# Altium footprint library Mini51Lib.PcbLib: 14 footprints
Each footprint in its own frame and in the unit in brackets; x right, y up, seen from the top. Pads: shape width x height; smd on the part's side, far side on the other; paste and mask are expansions set on the pad; w line width, h text height; cw(c..) or ccw(c..) is an arc to the next point about the centre after c.
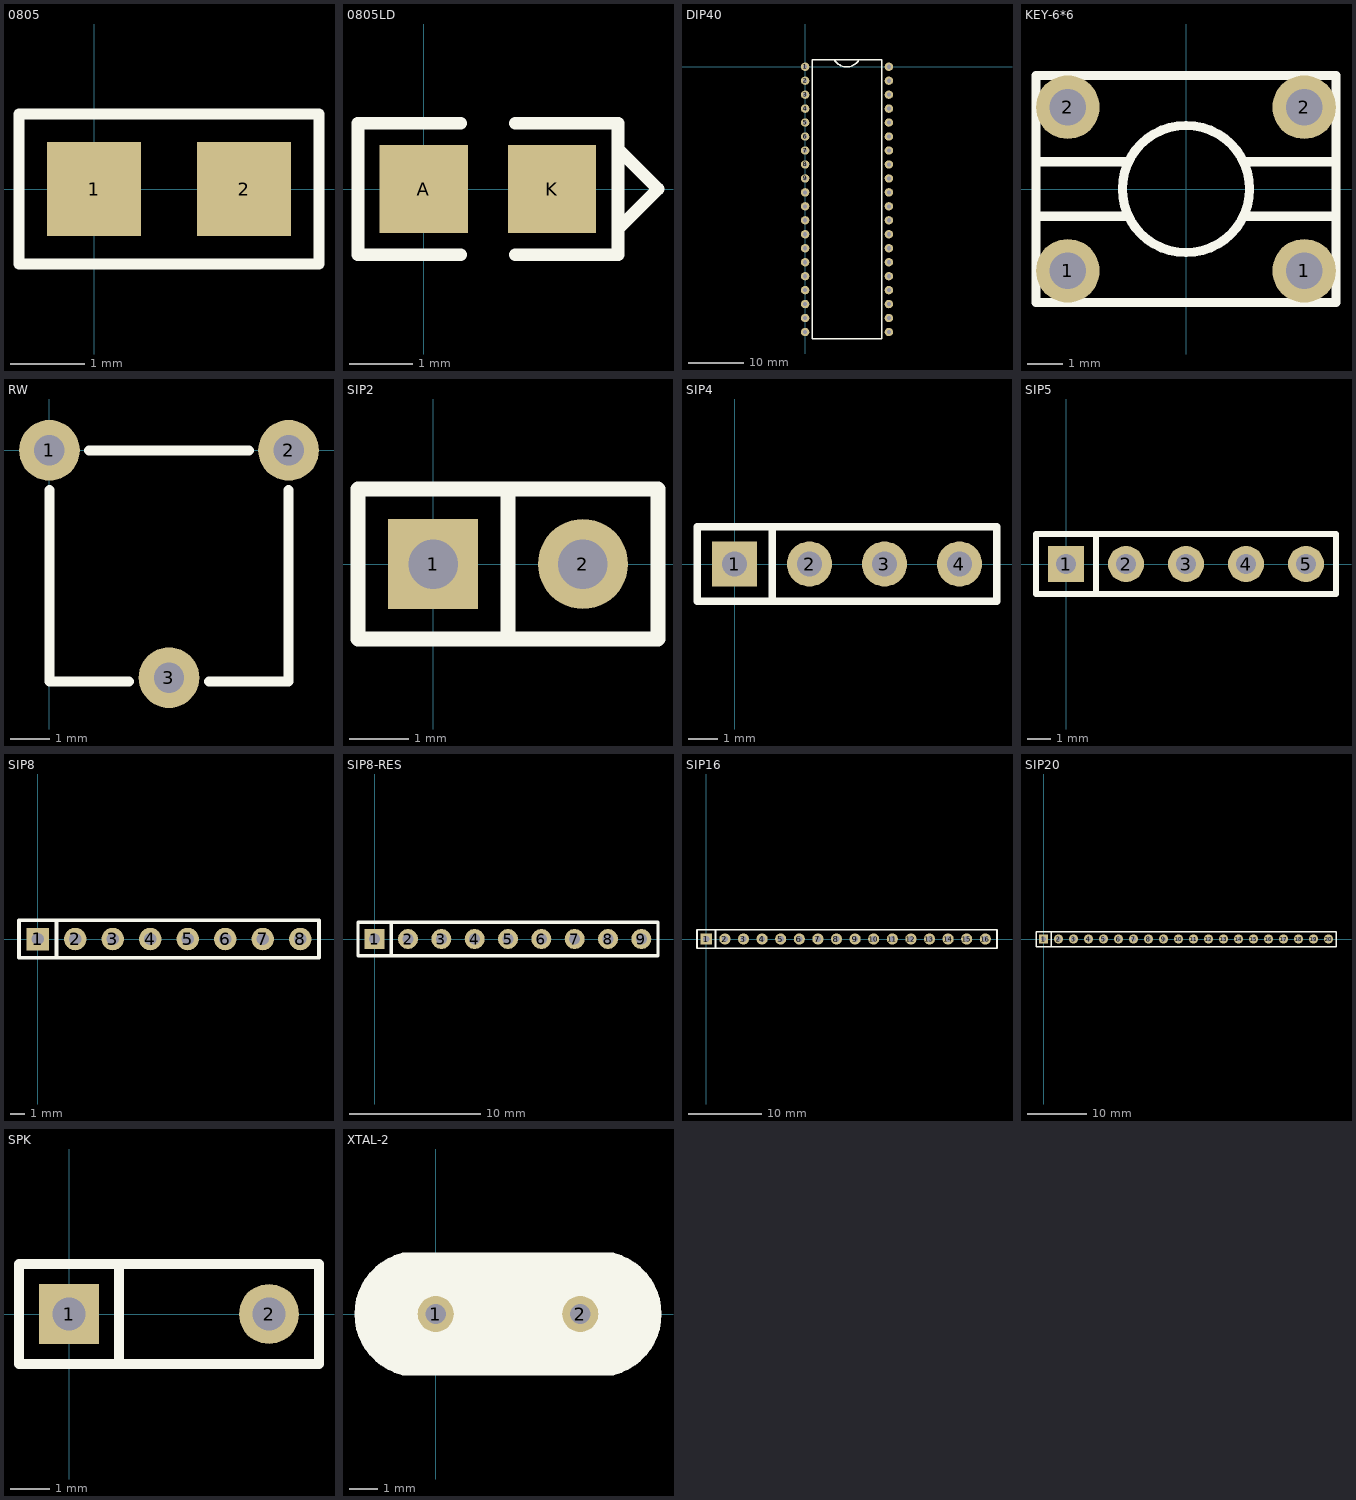
[diagram p0: the footprints below, top view; thin cyan lines are the x and y axes]

## 0805 [mil]
pads (2):
  rect 50x50 smd: 1(0,0) 2(80,0)
Top Overlay:
  lines w6: -40,-40 120,-40 120,40 -40,40 -40,-40

## 0805LD [mil] "SMD LED, Imperial-0805, Metric-2012"
pads (2):
  rect 55x55 smd: A(0,0) K(80,0)
Top Overlay:
  lines w8: 23,-41 -41,-41 -41,41 23,41 ; 57,-41 121,-41 121,41 57,41 ; 121,-25 146,0 121,25

## DIP40 [mil]
pads (40):
  round 60 hole 30: 1(0,0) 2(0,-100) 3(0,-200) 4(0,-300) 5(0,-400) 6(0,-500) 7(0,-600) 8(0,-700) 9(0,-800) 10(0,-900) 11(0,-1000) 12(0,-1100) 13(0,-1200) 14(0,-1300) 15(0,-1400) 16(0,-1500) 17(0,-1600) 18(0,-1700) 19(0,-1800) 20(0,-1900) 21(600,-1900) 22(600,-1800) 23(600,-1700) 24(600,-1600) 25(600,-1500) 26(600,-1400) 27(600,-1300) 28(600,-1200) 29(600,-1100) 30(600,-1000) 31(600,-900) 32(600,-800) 33(600,-700) 34(600,-600) 35(600,-500) 36(600,-400) 37(600,-300) 38(600,-200) 39(600,-100) 40(600,0)
Top Overlay:
  lines w10: 210,50 ccw(c297.42,98.56) 384.83,50 ; 50,-1950 550,-1950 550,50 50,50 50,-1950

## KEY-6*6 [mil]
pads (4):
  round 70 hole 40: 1(-130,-90) 1(130,-90) 2(-130,90) 2(130,90)
Top Overlay:
  circle w10: c0,0 r70
  lines w10: -165,-30 -65,-30 ; -165,30 -65,30 ; 65,-30 165,-30 ; 65,30 165,30 ; -165,-125 165,-125 165,125 -165,125 -165,-125

## RW [mil]
pads (3):
  round 60 hole 30: 1(0,0) 2(236.22,0) 3(118.11,-224.41)
Top Overlay:
  lines w10: 0,-39.37 0,-228.35 78.74,-228.35 ; 39.37,0 196.85,0 ; 157.48,-228.35 236.22,-228.35 236.22,-39.37

## SIP2 [mil]
pads (2):
  rect 60x60 hole 33: 1(0,0)
  round 60 hole 33: 2(100,0)
Top Overlay:
  lines w10: 50,-50 50,50 ; -50,-50 150,-50 150,50 -50,50 -50,-50

## SIP4 [mil]
pads (4):
  rect 60x60 hole 33: 1(0,0)
  round 60 hole 33: 2(100,0) 3(200,0) 4(300,0)
Top Overlay:
  lines w10: 50,-50 50,50 ; -50,-50 350,-50 350,50 -50,50 -50,-50

## SIP5 [mil]
pads (5):
  rect 60x60 hole 33: 1(0,0)
  round 60 hole 33: 2(100,0) 3(200,0) 4(300,0) 5(400,0)
Top Overlay:
  lines w10: 50,-50 50,50 ; -50,-50 450,-50 450,50 -50,50 -50,-50

## SIP8 [mil]
pads (8):
  rect 60x60 hole 33: 1(0,0)
  round 60 hole 33: 2(100,0) 3(200,0) 4(300,0) 5(400,0) 6(500,0) 7(600,0) 8(700,0)
Top Overlay:
  lines w10: 50,-50 50,50 ; -50,-50 750,-50 750,50 -50,50 -50,-50

## SIP8-RES [mil]
pads (9):
  rect 60x60 hole 33: 1(0,0)
  round 60 hole 33: 2(100,0) 3(200,0) 4(300,0) 5(400,0) 6(500,0) 7(600,0) 8(700,0) 9(800,0)
Top Overlay:
  lines w10: 50,-50 50,50 ; -50,-50 -50,50 850,50 850,-50 -50,-50

## SIP16 [mil]
pads (16):
  rect 60x60 hole 33: 1(0,0)
  round 60 hole 33: 2(100,0) 3(200,0) 4(300,0) 5(400,0) 6(500,0) 7(600,0) 8(700,0)
  round 60 hole 30: 9(800,0) 10(900,0) 11(1000,0) 12(1100,0) 13(1200,0) 14(1300,0) 15(1400,0) 16(1500,0)
Top Overlay:
  lines w10: 50,-50 50,50 ; -50,-50 1562.99,-50 1562.99,50 -50,50 -50,-50

## SIP20 [mil]
pads (20):
  rect 60x60 hole 33: 1(0,0)
  round 60 hole 33: 2(100,0) 3(200,0) 4(300,0) 5(400,0) 6(500,0) 7(600,0) 8(700,0)
  round 60 hole 30: 9(800,0) 10(900,0) 11(1000,0) 12(1100,0) 13(1200,0) 14(1300,0) 15(1400,0) 16(1500,0) 17(1600,0) 18(1700,0) 19(1800,0) 20(1900,0)
Top Overlay:
  lines w10: 50,-50 50,50 ; -50,-50 1950,-50 1950,50 -50,50 -50,-50

## SPK [mil]
pads (2):
  rect 60x60 hole 33: 1(0,0)
  round 60 hole 33: 2(200,0)
Top Overlay:
  lines w10: 50,-50 50,50 ; -50,-50 250,-50 250,50 -50,50 -50,-50

## XTAL-2 [mil]
height 137.8
pads (2):
  round 50 hole 28: 1(0,0) 2(200,0)
Top Overlay:
  lines w10: -46.34,-79.65 cw(c-25,0) -46.34,79.65 ; -45,-80 245,-80 ; -45,80 245,80 ; 246.34,-79.65 ccw(c225,0) 246.34,79.65
  lines w160: -25,0 225,0